# EAGLE library part MODII-4PIN (library IntegerLabs)
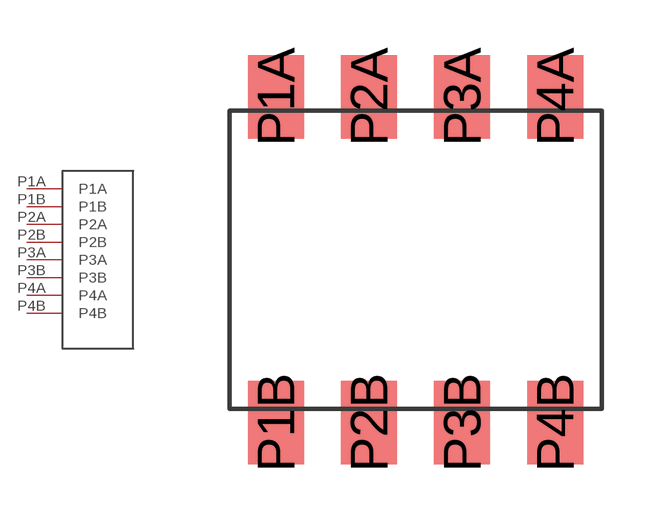
[diagram p0: symbol with the pads of MODII-4PIN; footprint MODII-4PIN]

Designator prefix -

## MODII-4PIN  [MODII-4PIN]
P1A  P1A
P1B  P1B
P2A  P2A
P2B  P2B
P3A  P3A
P3B  P3B
P4A  P4A
P4B  P4B

## Footprint MODII-4PIN (pad centres in mm)
smd 1.524 x 2.286: P1A 0,8.89; P1B 0,0; P2A 2.54,8.89; P2B 2.54,0; P3A 5.08,8.89; P3B 5.08,0; P4A 7.62,8.89; P4B 7.62,0